# Altium footprint library footprints.PcbLib: 12 footprints
Each footprint in its own frame and in the unit in brackets; x right, y up, seen from the top. Pads: shape width x height; smd on the part's side, far side on the other; paste and mask are expansions set on the pad; w line width, h text height; cw(c..) or ccw(c..) is an arc to the next point about the centre after c.
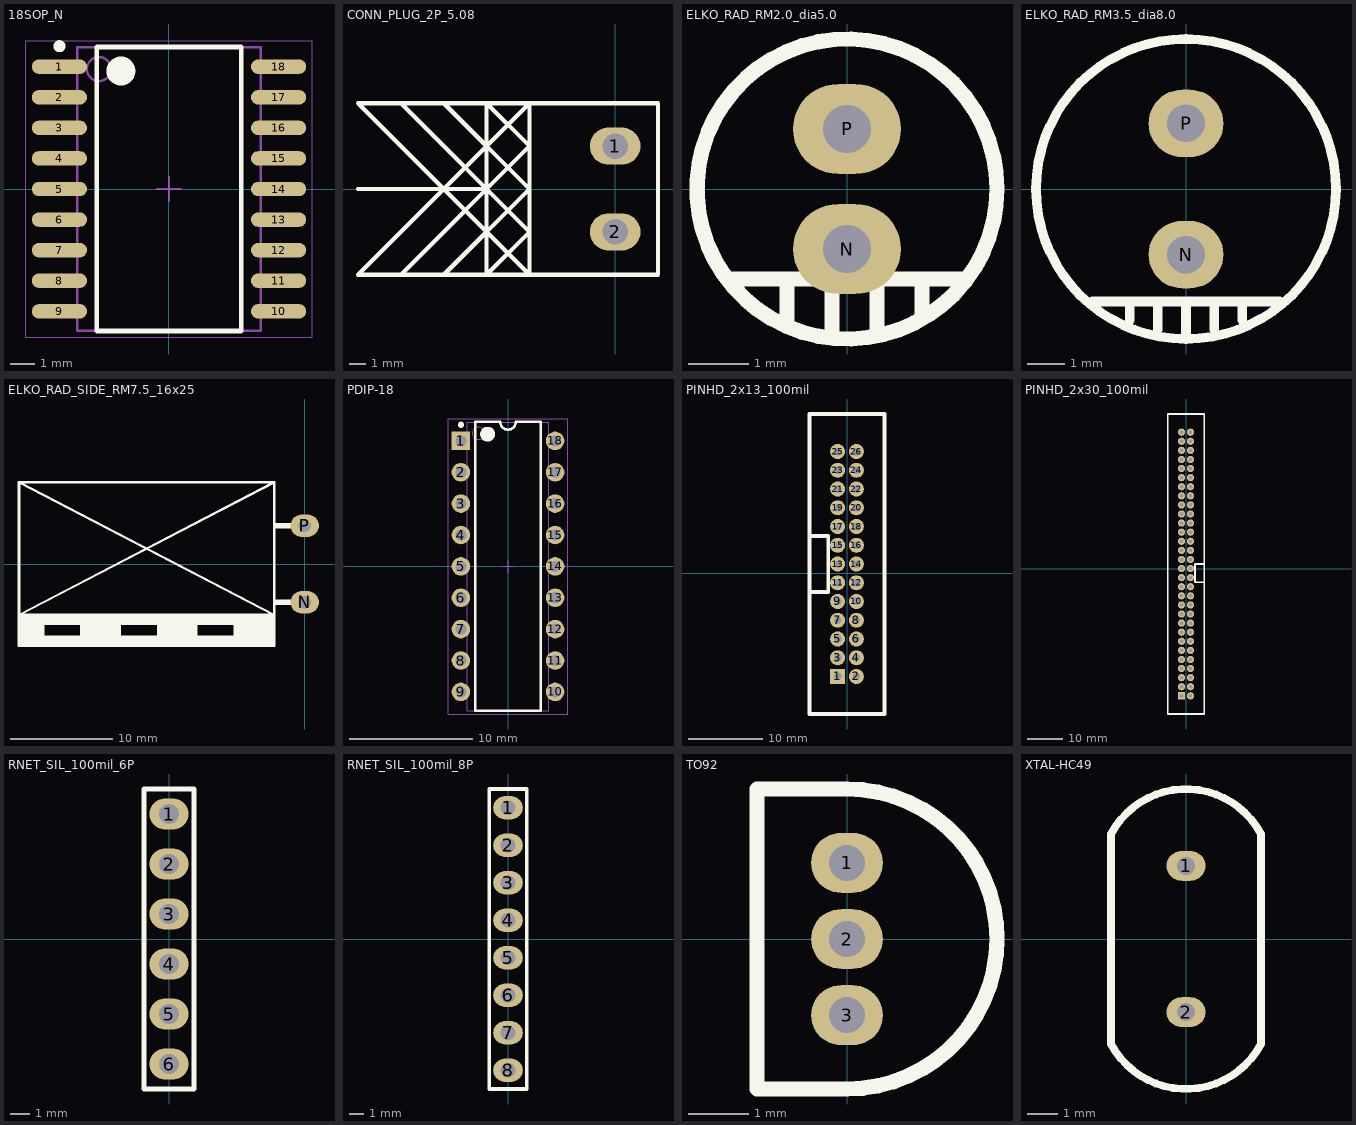
[diagram p0: the footprints below, top view; thin cyan lines are the x and y axes]

## 18SOP_N [mm] "SOIC, 18-Leads, Body 11.6x7.1mm, Pitch 1.27mm, IPC Medium Density"
height 2.64
pads (18):
  oval 2.3x0.6 smd: 1(-4.55,5.08) 2(-4.55,3.81) 3(-4.55,2.54) 4(-4.55,1.27) 5(-4.55,0) 6(-4.55,-1.27) 7(-4.55,-2.54) 8(-4.55,-3.81) 9(-4.55,-5.08) 10(4.55,-5.08) 11(4.55,-3.81) 12(4.55,-2.54) 13(4.55,-1.27) 14(4.55,0) 15(4.55,1.27) 16(4.55,2.54) 17(4.55,3.81) 18(4.55,5.08)
Top Overlay:
  circle w0.25: c-4.55,5.93 r0.125
  circle w0.6: c-2,4.9 r0.3
  lines w0.2: -3,-5.9 -3,5.9 3,5.9 3,-5.9 -3,-5.9
Mechanical 13:
  circle w0.1: c-2.91,4.98 r0.5
  lines w0.1: -3.81,-5.88 -3.81,5.88 3.81,5.88 3.81,-5.88 -3.81,-5.88
Mechanical 15:
  lines w0.05: -5.95,-6.15 -5.95,6.15 5.95,6.15 5.95,-6.15 -5.95,-6.15
  lines w0.1: -0.5,0 0.5,0 ; 0,-0.5 0,0.5
3D body: height 2.64, standoff 0.1, extent -3.81,-5.88 3.81,5.88

## CONN_PLUG_2P_5.08 [mm]
height 20
pads (2):
  oval 3x2.2 hole 1.5: 1(0,2.54) 2(0,-2.54)
Top Overlay:
  lines w0.254: -15.24,0 -7.62,0 ; -12.7,-5.08 -5.08,2.54 -7.62,5.08 ; -12.7,5.08 -5.08,-2.54 -7.62,-5.08 ; -10.16,-5.08 -5.08,0 -10.16,5.08 ; -7.62,-5.08 2.54,-5.08 2.54,5.08 -7.62,5.08 ; -7.62,-5.08 -7.62,5.08 ; -7.62,-5.08 -15.24,-5.08 -5.08,5.08 -5.08,-5.08 -15.24,5.08 -7.62,5.08

## ELKO_RAD_RM2.0_dia5.0 [mm] "Elko Radial RM2.0, 5.0mm diameter"
height 11
pads (2):
  oval 1.8x1.5 hole 0.8 mask+0.102: N(0,-1)
  oval 1.8x1.5 hole 0.8: P(0,1)
Top Overlay:
  circle w0.254: c0,0 r2.5
  lines w0.254: -2,-1.5 2,-1.5 ; -1,-2.25 -1,-1.5 ; -0.25,-2.4 -0.25,-1.5 ; 0.5,-2.4 0.5,-1.5 ; 1.25,-2.1 1.25,-1.5

## ELKO_RAD_RM3.5_dia8.0 [mm] "Elko Radial RM3.5, 8.0mm diameter"
height 13
pads (2):
  oval 2x1.8 hole 1 mask+0.102: N(0,-1.75)
  oval 2x1.8 hole 1: P(0,1.75)
Top Overlay:
  circle w0.254: c0,0 r4
  lines w0.254: -2.5,-3 2.5,-3 ; -1.5,-3.5 -1.5,-3 ; -0.75,-3.75 -0.75,-3 ; 0,-4 0,-3 ; 0.75,-3.75 0.75,-3 ; 1.5,-3.5 1.5,-3

## ELKO_RAD_SIDE_RM7.5_16x25 [mm] "Elko RM7.5mm Radial, Mounted sideways, Body size 16mm(dia) *25mm(l)"
height 16
pads (2):
  oval 2.8x2.2 hole 1.2: N(0,-3.75) P(0,3.75)
Top Overlay:
  rectangle: -7,-7 -3,-5.5
  rectangle: -14.5,-7 -10.5,-6
  rectangle: -22,-7 -18,-6
  rectangle: -28,-7 -25.5,-6
  rectangle: -28,-8 -3,-7
  rectangle: -28,-6 -3,-5
  rectangle: -3,-4 -1,-3.5
  rectangle: -3,3.5 -1,4
  lines w0.254: -28,8 -3,8 ; -28,8 -28,-8 -3,-8 -3,8 ; -28,8 -3,-5 -28,-5 -3,8

## PDIP-18 [mm] "DIP, 18-Leads, Row Spacing 7.62mm, Pitch 2.54mm, Body 22.5x6.4mm"
height 5.08
pads (18):
  rect 1.5x1.5 hole 0.9: 1(-3.81,10.16)
  round 1.5 hole 0.9: 2(-3.81,7.62) 3(-3.81,5.08) 4(-3.81,2.54) 5(-3.81,0) 6(-3.81,-2.54) 7(-3.81,-5.08) 8(-3.81,-7.62) 9(-3.81,-10.16) 10(3.81,-10.16) 11(3.81,-7.62) 12(3.81,-5.08) 13(3.81,-2.54) 14(3.81,0) 15(3.81,2.54) 16(3.81,5.08) 17(3.81,7.62) 18(3.81,10.16)
Top Overlay:
  circle w0.25: c-3.81,11.46 r0.125
  circle w0.6: c-1.65,10.7 r0.3
  lines w0.2: -2.65,-11.7 -2.65,11.7 -0.635,11.7 ccw(c0,11.7) 0.635,11.7 2.65,11.7 2.65,-11.7 -2.65,-11.7
Mechanical 13:
  circle w0.1: c-2.4,10.775 r0.5
  lines w0.1: -3.3,-11.675 -3.3,11.675 3.3,11.675 3.3,-11.675 -3.3,-11.675
Mechanical 15:
  lines w0.05: -4.85,-11.95 -4.85,11.95 4.85,11.95 4.85,-11.95 -4.85,-11.95
  lines w0.1: -0.5,0 0.5,0 ; 0,-0.5 0,0.5
3D body: height 5.08, standoff 0.51, extent -3.3,-11.675 3.3,11.675

## PINHD_2x13_100mil [mil] "2x13p 100mil Pin Header"
pads (26):
  rect 80x80 hole 40 unplated: 1(-50,-550)
  round 80 hole 40 unplated: 2(50,-550) 3(-50,-450) 4(50,-450) 5(-50,-350) 6(50,-350) 7(-50,-250) 8(50,-250) 9(-50,-150) 10(50,-150) 11(-50,-50) 12(50,-50) 13(-50,50) 14(50,50) 15(-50,150) 16(50,150) 17(-50,250) 18(50,250) 19(-50,350) 20(50,350) 21(-50,450) 22(50,450) 23(-50,550) 24(50,550) 25(-50,650) 26(50,650)
Top Overlay:
  lines w20: -200,-100 -100,-100 -100,200 -200,200 ; -200,-750 200,-750 200,850 -200,850 -200,-750

## PINHD_2x30_100mil [mil] "2x30p 100mil Pin Header"
pads (60):
  rect 80x80 hole 40 unplated: 1(-50,-1400)
  round 80 hole 40 unplated: 2(50,-1400) 3(-50,-1300) 4(50,-1300) 5(-50,-1200) 6(50,-1200) 7(-50,-1100) 8(50,-1100) 9(-50,-1000) 10(50,-1000) 11(-50,-900) 12(50,-900) 13(-50,-800) 14(50,-800) 15(-50,-700) 16(50,-700) 17(-50,-600) 18(50,-600) 19(-50,-500) 20(50,-500) 21(-50,-400) 22(50,-400) 23(-50,-300) 24(50,-300) 25(-50,-200) 26(50,-200) 27(-50,-100) 28(50,-100) 29(-50,0) 30(50,0) 31(-50,100) 32(50,100) 33(-50,200) 34(50,200) 35(-50,300) 36(50,300) 37(-50,400) 38(50,400) 39(-50,500) 40(50,500) 41(-50,600) 42(50,600) 43(-50,700) 44(50,700) 45(-50,800) 46(50,800) 47(-50,900) 48(50,900) 49(-50,1000) 50(50,1000) 51(-50,1100) 52(50,1100) 53(-50,1200) 54(50,1200) 55(-50,1300) 56(50,1300) 57(-50,1400) 58(50,1400) 59(-50,1500) 60(50,1500)
Top Overlay:
  lines w20: 200,-150 100,-150 100,50 200,50 ; -200,-1600 200,-1600 200,1700 -100,1700 -200,1700 -200,1600 -200,-1600

## RNET_SIL_100mil_6P [mm] "Resistor network, SIL package, 100mil pin pitch, 6 pin"
pads (6):
  oval 2x1.6 hole 1: 1(0,6.35) 2(0,3.81) 3(0,1.27) 4(0,-1.27) 5(0,-3.81) 6(0,-6.35)
Top Overlay:
  lines w0.254: -1.27,-7.62 1.27,-7.62 1.27,7.62 -1.27,7.62 -1.27,-7.62

## RNET_SIL_100mil_8P [mm] "Resistor network, SIL package, 100mil pin pitch, 8 pin"
pads (8):
  oval 2x1.6 hole 1: 1(0,8.89) 2(0,6.35) 3(0,3.81) 4(0,1.27) 5(0,-1.27) 6(0,-3.81) 7(0,-6.35) 8(0,-8.89)
Top Overlay:
  lines w0.254: -1.27,-10.16 1.27,-10.16 1.27,-8.89 1.27,10.16 -1.27,10.16 -1.27,-10.16

## TO92 [mm]
pads (3):
  oval 1.2x1 hole 0.6: 1(0,1.27) 2(0,0) 3(0,-1.27)
Top Overlay:
  lines w0.254: -1.5,-2.5 0,-2.5 ccw(c0,0) 2.5,0 ccw(c0,0) 0,2.5 -1.5,2.5 -1.5,-2.5

## XTAL-HC49 [mm] "HC49 Crystal Package"
pads (2):
  oval 1.3x1 hole 0.6: 1(0,2.44) 2(0,-2.44)
Top Overlay:
  lines w0.254: -2.5,-3.5 ccw(c0,-2.167) 2.5,-3.5 2.5,3.5 ccw(c0,2.167) -2.5,3.5 -2.5,0 -2.5,-3.5